# EAGLE library part MAX4634_4:1_MUX (library myFab)
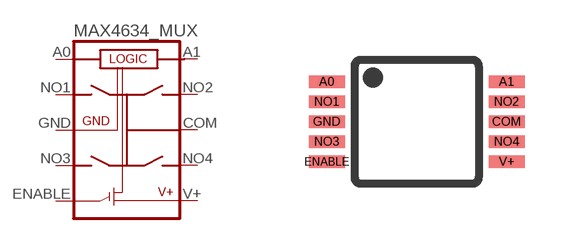
[diagram p15: symbol with the pads of UMAX10; footprint UMAX10]

Designator prefix -

## MAX4634_4:1_MUX  [UMAX10]
A0  A0
A1  A1
COM  COM
ENABLE  ENABLE
GND  GND
NO1  NO1
NO2  NO2
NO3  NO3
NO4  NO4
V+  V+

## Footprint UMAX10 (pad centres in mm)
micro MAX Package
smd 0.9 x 0.32: A0 -2.25,1; A1 2.25,1; COM 2.25,0; ENABLE -2.25,-1; GND -2.25,0; NO1 -2.25,0.5; NO2 2.25,0.5; NO3 -2.25,-0.5; NO4 2.25,-0.5; V+ 2.25,-1